# Altium schematic symbol library Amplifier_Difference.SchLib: 15 symbols
Pins are listed as number, name and electrical type; pins without a type are passive.

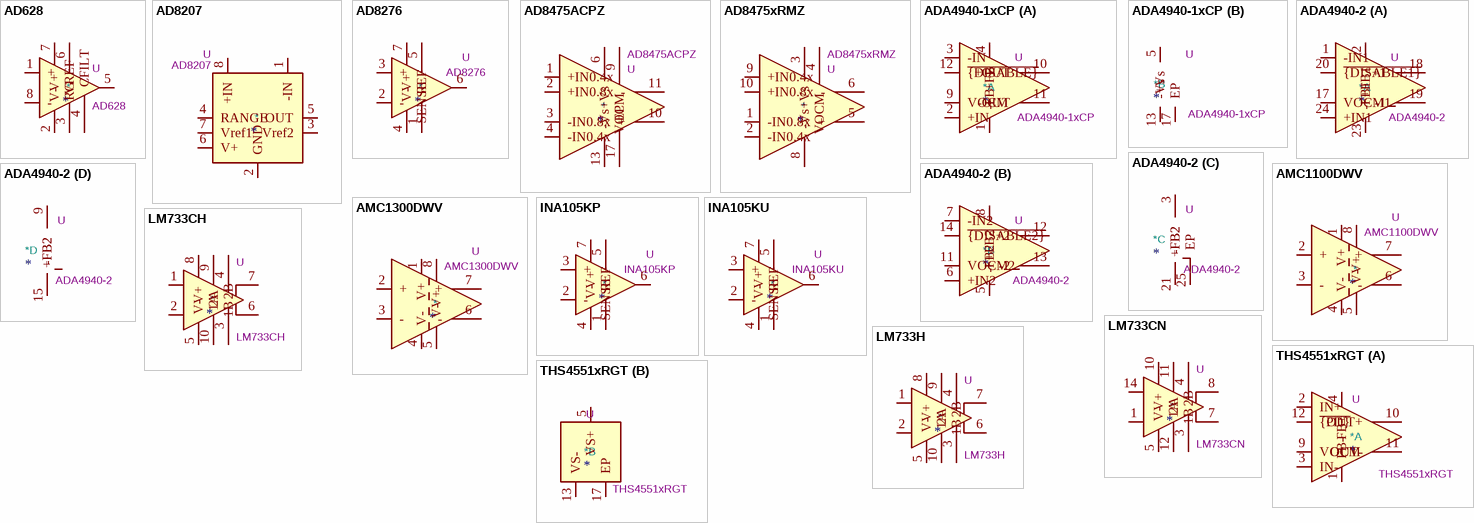
[diagram p0: symbols AD628 to THS4551xRGT]

## AD628
designator *  value AD628  Reference: U
ki_keywords: difference amplifier; ki_description: High Common-Mode Voltage, Programmable Gain Difference Amplifier, +/-120V, Gain = 0.1 to 100, SOIC-8/MSOP-8; ki_fp_filters: SOIC*3.9x4.9mm*P1.27mm* MSOP*3x3mm*P0.65mm*; Datasheet: https://www.analog.com/media/en/technical-documentation/data-sheets/AD628.pdf
pins: 1 +, 2 V-, 3 VREF, 4 CFILT, 5, 6 RG, 7 V+, 8 -

## AD8207
designator *  value AD8207  Reference: U
ki_keywords: highside HS current sense difference amplifier linear buffered; ki_description: 65V (35V) Zero-Drift, High Voltage, Bidirectional, Difference Amplifier, 20V/V gain, bandwidth 150kHz, Vcc=5V (3.3V), SOIC-8; ki_fp_filters: SOIC*3.9x4.9mm*P1.27mm*; Footprint: Package_SO:SOIC-8_3.9x4.9mm_P1.27mm; Datasheet: https://www.analog.com/media/en/technical-documentation/data-sheets/AD8207.pdf
pins: 1 -IN, 2 GND, 3 Vref2, 4 RANGE, 5 OUT, 6 V+, 7 Vref1, 8 +IN

## AD8276
designator *  value AD8276  Reference: U
ki_keywords: difference amplifier; ki_description: Low Power, Wide Supply Range, Low Cost Unity-Gain Difference Amplifier, SOIC-8/MSOP-8; ki_fp_filters: SOIC*3.9x4.9mm*P1.27mm* MSOP*3x3mm*P0.65mm*; Datasheet: https://www.analog.com/media/en/technical-documentation/data-sheets/AD8276_8277.pdf
pins: 1 REF, 2 -, 3 +, 4 V-, 5 SENSE, 6, 7 V+, 8 hidden

## AD8475ACPZ
designator *  value AD8475ACPZ  Reference: U
ki_keywords: selectable gain ADC driver; ki_description: Precision, Selectable Gain, Fully Differential Funnel Amplifier, LFCSP-16; ki_fp_filters: LFCSP*1EP*3x3mm*P0.5mm*; Footprint: Package_CSP:LFCSP-16-1EP_3x3mm_P0.5mm_EP1.6x1.6mm; Datasheet: https://www.analog.com/media/en/technical-documentation/data-sheets/AD8475.pdf
pins: 1 +IN0.4x, 2 +IN0.8x, 3 -IN0.8x, 4 -IN0.4x, 5 -IN0.4x hidden, 6 +Vs, 7 +Vs hidden, 8 +Vs hidden, 9 VOCM, 10 +, 11 -, 12 NC hidden, 13 -Vs, 14 -Vs hidden, 15 -Vs hidden, 16 +IN0.4x hidden, 17 EP

## AD8475xRMZ
designator *  value AD8475xRMZ  Reference: U
ki_keywords: selectable gain ADC driver; ki_description: Precision, Selectable Gain, Fully Differential Funnel Amplifier, MSOP-10; ki_fp_filters: MSOP*3x3mm*P0.5mm*; Footprint: Package_SO:MSOP-10_3x3mm_P0.5mm; Datasheet: https://www.analog.com/media/en/technical-documentation/data-sheets/AD8475.pdf
pins: 1 -IN0.8x, 2 -IN0.4x, 3 +Vs, 4 VOCM, 5 +, 6 -, 7 NC hidden, 8 -Vs, 9 +IN0.4x, 10 +IN0.8x

## ADA4940-1xCP
designator *  value ADA4940-1xCP  Reference: U
ki_keywords: differential amplifier; ki_description: Ultralow Power, Low Distortion, Fully Differential ADC Drivers, LFCSP-16; ki_fp_filters: LFCSP*1EP*3x3mm*P0.5mm*; Footprint: Package_CSP:LFCSP-16-1EP_3x3mm_P0.5mm_EP1.3x1.3mm_ThermalVias; Datasheet: https://www.analog.com/media/en/technical-documentation/data-sheets/ADA4940-1_4940-2.pdf
part A pins: 1 -FB, 2 +IN, 3 -IN, 4 +FB, 9 VOCM, 10 +OUT, 11 -OUT, 12 ~{{DISABLE}}
part B pins: 5 +Vs, 6 +Vs hidden, 7 +Vs hidden, 8 +Vs hidden, 13 -Vs, 14 -Vs hidden, 15 -Vs hidden, 16 -Vs hidden, 17 EP

## ADA4940-2
designator *  value ADA4940-2  Reference: U
ki_keywords: differential amplifier; ki_description: Ultralow Power, Low Distortion, Fully Differential ADC Drivers, Dual-Channel, LFCSP-24; ki_fp_filters: LFCSP*1EP*4x4mm*P0.5mm*; Footprint: Package_CSP:LFCSP-24-1EP_4x4mm_P0.5mm_EP2.5x2.5mm; Datasheet: https://www.analog.com/media/en/technical-documentation/data-sheets/ADA4940-1_4940-2.pdf
part A pins: 1 -IN1, 2 +FB1, 17 VOCM1, 18 +1, 19 -1, 20 ~{{DISABLE1}}, 23 -FB1, 24 +IN1
part B pins: 5 -FB2, 6 +IN2, 7 -IN2, 8 +FB2, 11 VOCM2, 12 +2, 13 -2, 14 ~{{DISABLE2}}
part C pins: 3 +FB2, 4 +FB2 hidden, 21 -FB2, 22 -FB2 hidden, 25 EP
part D pins: 9 +FB2, 10 +FB2 hidden, 15 -FB2, 16 -FB2 hidden

## AMC1100DWV
designator *  value AMC1100DWV  Reference: U
ki_keywords: isolated difference amplifier; ki_description: Fully-Differential Isolation Amplifier, Fixed Gain = 8, UL1577/IEC60747-5-2 Approved, SOIC-8; ki_fp_filters: SOIC*7.5x5.85mm*P1.27mm*; Footprint: Package_SO:SOIC-8_7.5x5.85mm_P1.27mm; Datasheet: http://www.ti.com/lit/ds/symlink/amc1100.pdf
pins: 1 V+, 2 +, 3 -, 4 V-, 5 V-, 6 -, 7 +, 8 V+

## AMC1300DWV
designator *  value AMC1300DWV  Reference: U
ki_keywords: isolated difference amplifier; ki_description: Precision, ±250-mV Input, Reinforced Isolated Amplifier, Fixed Gain = 8.2, UL1577/VDE V 0884-11 Approved, SOIC-8; ki_fp_filters: SOIC*7.5x5.85mm*P1.27mm*; Footprint: Package_SO:SOIC-8_7.5x5.85mm_P1.27mm; Datasheet: http://www.ti.com/lit/ds/symlink/amc1300.pdf
pins: 1 V+, 2 +, 3 -, 4 V-, 5 V-, 6 -, 7 +, 8 V+

## INA105KP
designator *  value INA105KP  Reference: U
ki_keywords: difference amplifier; ki_description: Low Power, Wide Supply Range, Low Cost Unity-Gain Difference Amplifier, DIP-8; ki_fp_filters: DIP*W7.62mm*; Footprint: Package_DIP:DIP-8_W7.62mm; Datasheet: https://www.ti.com/lit/ds/symlink/ina105.pdf
pins: 1 REF, 2 -, 3 +, 4 V-, 5 SENSE, 6, 7 V+, 8 hidden

## INA105KU
designator *  value INA105KU  Reference: U
ki_keywords: difference amplifier; ki_description: Low Power, Wide Supply Range, Low Cost Unity-Gain Difference Amplifier, SOIC-8; ki_fp_filters: SOIC*3.9x4.9mm*P1.27mm*; Footprint: Package_SO:SOIC-8_3.9x4.9mm_P1.27mm; Datasheet: https://www.ti.com/lit/ds/symlink/ina105.pdf
pins: 1 REF, 2 -, 3 +, 4 V-, 5 SENSE, 6, 7 V+, 8 hidden

## LM733CH
designator *  value LM733CH  Reference: U
ki_keywords: single differential video opamp; ki_description: Single Differential Amplifier, TO-5-10; ki_fp_filters: TO?5*; Footprint: Package_TO_SOT_THT:TO-5-10; Datasheet: http://www.soemtron.org/downloads/disposals/lm733cn.pdf
pins: 1, 2, 3 2B, 4 1B, 5 V-, 6, 7, 8 V+, 9 1A, 10 2A

## LM733CN
designator *  value LM733CN  Reference: U
ki_keywords: single differential video opamp; ki_description: Single Differential Amplifier, DIP-14; ki_fp_filters: DIP*W7.62mm*; Footprint: Package_DIP:DIP-14_W7.62mm; Datasheet: http://www.soemtron.org/downloads/disposals/lm733cn.pdf
pins: 1, 2 NC hidden, 3 2B, 4 1B, 5 V-, 6 NC hidden, 7, 8, 9 NC hidden, 10 V+, 11 1A, 12 2A, 13 NC hidden, 14

## LM733H
designator *  value LM733H  Reference: U
ki_keywords: single differential video opamp; ki_description: Single Differential Amplifier, TO-5-10; ki_fp_filters: TO?5*; Footprint: Package_TO_SOT_THT:TO-5-10; Datasheet: http://www.soemtron.org/downloads/disposals/lm733cn.pdf
pins: 1, 2, 3 2B, 4 1B, 5 V-, 6, 7, 8 V+, 9 1A, 10 2A

## THS4551xRGT
designator *  value THS4551xRGT  Reference: U
ki_keywords: differential amplifier; ki_description: Low-Noise Precision Fully Differential Amplifier, VQFN-16; ki_fp_filters: VQFN*1EP*3x3mm*P0.5mm*; Footprint: Package_DFN_QFN:VQFN-16-1EP_3x3mm_P0.5mm_EP1.68x1.68mm; Datasheet: https://www.ti.com/lit/ds/symlink/ths4551.pdf
part A pins: 1 FB-, 2 IN+, 3 IN-, 4 FB+, 9 VOCM, 10 OUT+, 11 OUT-, 12 ~{{PD}}
part B pins: 5 VS+, 6 VS+ hidden, 7 VS+ hidden, 8 VS+ hidden, 13 VS-, 14 VS- hidden, 15 VS- hidden, 16 VS- hidden, 17 EP